# Altium integrated library LMZ12001.IntLib: 2 symbols
Pins are listed as number, name and electrical type; pins without a type are passive.

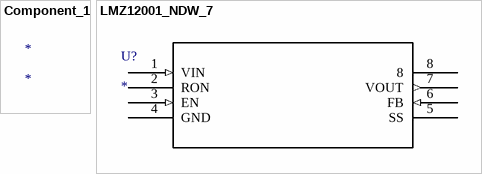
[diagram p0: symbols Component_1 to LMZ12001_NDW_7]

## Component_1
designator *

## LMZ12001_NDW_7
designator U?
Imported; Manufacturer: Texas Instruments; Manufacturer_Part_Number: lmz12001_ndw_7; basePN: LMZ12001; NSC_PackageReference: TZA07A; DatasheetURL: http://www.ti.com/lit/ds/symlink/lmz12001.pdf; Vendor: Texas Instruments; RefDes: RefDes; Type: DEV; Value: Value
footprint TZA07A
pins: 1 VIN (in), 2 RON, 3 EN (in), 4 GND (power), 5 SS, 6 FB (in), 7 VOUT (out), 8